# Altium integrated library Nixie.IntLib: 2 symbols
Pins are listed as number, name and electrical type; pins without a type are passive.

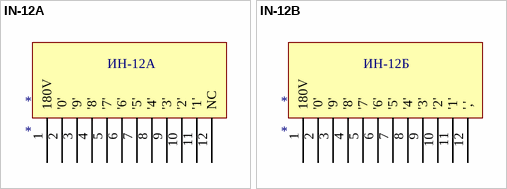
[diagram p0: symbols IN-12A to IN-12B]

## IN-12A
designator *
footprint IN-12
footprint PL31a-p
pins: 1 180V (power), 2 '0', 3 '9', 4 '8', 5 '7', 6 '6', 7 '5', 8 '4', 9 '3', 10 '2', 11 '1', 12 NC
text: ИН-12А

## IN-12B
designator *
pins: 1 180V (power), 2 '0', 3 '9', 4 '8', 5 '7', 6 '6', 7 '5', 8 '4', 9 '3', 10 '2', 11 '1', 12 ','
text: ИН-12Б